# Altium footprint library Leadless.PcbLib: 78 footprints (part 3 of 5)
Each footprint in its own frame and in the unit in brackets; x right, y up, seen from the top. Pads: shape width x height; smd on the part's side, far side on the other; paste and mask are expansions set on the pad; w line width, h text height; cw(c..) or ccw(c..) is an arc to the next point about the centre after c.
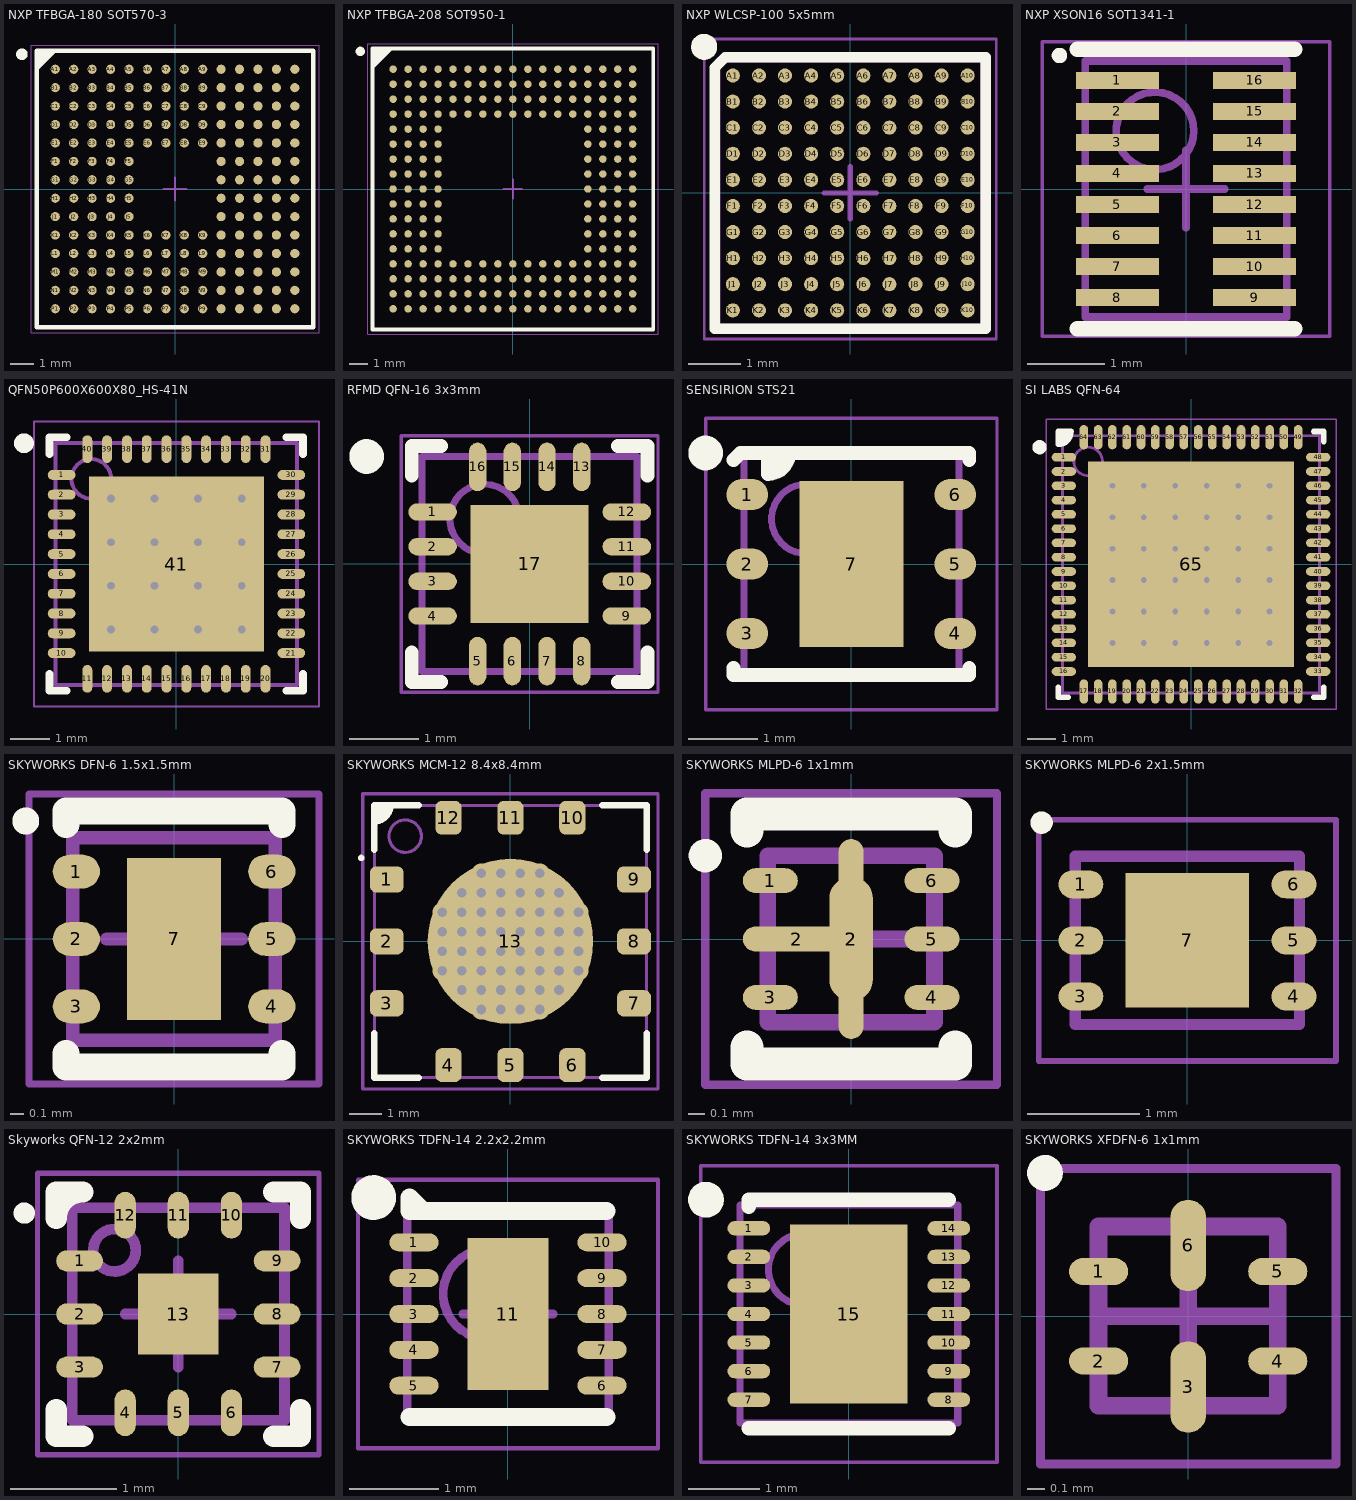
[diagram p2: the footprints below, top view; thin cyan lines are the x and y axes]

## NXP TFBGA-180 SOT570-3 [mm] "BGA, 180-Leads, Body 12.00x12.00mmx1.20mm, Pitch 0.80mm"
height 1.2
pads (180):
  round 0.4 smd: A1(-5.2,5.2) A2(-4.4,5.2) A3(-3.6,5.2) A4(-2.8,5.2) A5(-2,5.2) A6(-1.2,5.2) A7(-0.4,5.2) A8(0.4,5.2) A9(1.2,5.2) A10(2,5.2) A11(2.8,5.2) A12(3.6,5.2) A13(4.4,5.2) A14(5.2,5.2) B1(-5.2,4.4) B2(-4.4,4.4) B3(-3.6,4.4) B4(-2.8,4.4) B5(-2,4.4) B6(-1.2,4.4) B7(-0.4,4.4) B8(0.4,4.4) B9(1.2,4.4) B10(2,4.4) B11(2.8,4.4) B12(3.6,4.4) B13(4.4,4.4) B14(5.2,4.4) C1(-5.2,3.6) C2(-4.4,3.6) C3(-3.6,3.6) C4(-2.8,3.6) C5(-2,3.6) C6(-1.2,3.6) C7(-0.4,3.6) C8(0.4,3.6) C9(1.2,3.6) C10(2,3.6) C11(2.8,3.6) C12(3.6,3.6) C13(4.4,3.6) C14(5.2,3.6) D1(-5.2,2.8) D2(-4.4,2.8) D3(-3.6,2.8) D4(-2.8,2.8) D5(-2,2.8) D6(-1.2,2.8) D7(-0.4,2.8) D8(0.4,2.8) D9(1.2,2.8) D10(2,2.8) D11(2.8,2.8) D12(3.6,2.8) D13(4.4,2.8) D14(5.2,2.8) E1(-5.2,2) E2(-4.4,2) E3(-3.6,2) E4(-2.8,2) E5(-2,2) E6(-1.2,2) E7(-0.4,2) E8(0.4,2) E9(1.2,2) E10(2,2) E11(2.8,2) E12(3.6,2) E13(4.4,2) E14(5.2,2) F1(-5.2,1.2) F2(-4.4,1.2) F3(-3.6,1.2) F4(-2.8,1.2) F5(-2,1.2) F10(2,1.2) F11(2.8,1.2) F12(3.6,1.2) F13(4.4,1.2) F14(5.2,1.2) G1(-5.2,0.4) G2(-4.4,0.4) G3(-3.6,0.4) G4(-2.8,0.4) G5(-2,0.4) G10(2,0.4) G11(2.8,0.4) G12(3.6,0.4) G13(4.4,0.4) G14(5.2,0.4) H1(-5.2,-0.4) H2(-4.4,-0.4) H3(-3.6,-0.4) H4(-2.8,-0.4) H5(-2,-0.4) H10(2,-0.4) H11(2.8,-0.4) H12(3.6,-0.4) H13(4.4,-0.4) H14(5.2,-0.4) J1(-5.2,-1.2) J2(-4.4,-1.2) J3(-3.6,-1.2) J4(-2.8,-1.2) J5(-2,-1.2) J10(2,-1.2) J11(2.8,-1.2) J12(3.6,-1.2) J13(4.4,-1.2) J14(5.2,-1.2) K1(-5.2,-2) K2(-4.4,-2) K3(-3.6,-2) K4(-2.8,-2) K5(-2,-2) K6(-1.2,-2) K7(-0.4,-2) K8(0.4,-2) K9(1.2,-2) K10(2,-2) K11(2.8,-2) K12(3.6,-2) K13(4.4,-2) K14(5.2,-2) L1(-5.2,-2.8) L2(-4.4,-2.8) L3(-3.6,-2.8) L4(-2.8,-2.8) L5(-2,-2.8) L6(-1.2,-2.8) L7(-0.4,-2.8) L8(0.4,-2.8) L9(1.2,-2.8) L10(2,-2.8) L11(2.8,-2.8) L12(3.6,-2.8) L13(4.4,-2.8) L14(5.2,-2.8) M1(-5.2,-3.6) M2(-4.4,-3.6) M3(-3.6,-3.6) M4(-2.8,-3.6) M5(-2,-3.6) M6(-1.2,-3.6) M7(-0.4,-3.6) M8(0.4,-3.6) M9(1.2,-3.6) M10(2,-3.6) M11(2.8,-3.6) M12(3.6,-3.6) M13(4.4,-3.6) M14(5.2,-3.6) N1(-5.2,-4.4) N2(-4.4,-4.4) N3(-3.6,-4.4) N4(-2.8,-4.4) N5(-2,-4.4) N6(-1.2,-4.4) N7(-0.4,-4.4) N8(0.4,-4.4) N9(1.2,-4.4) N10(2,-4.4) N11(2.8,-4.4) N12(3.6,-4.4) N13(4.4,-4.4) N14(5.2,-4.4) P1(-5.2,-5.2) P2(-4.4,-5.2) P3(-3.6,-5.2) P4(-2.8,-5.2) P5(-2,-5.2) P6(-1.2,-5.2) P7(-0.4,-5.2) P8(0.4,-5.2) P9(1.2,-5.2) P10(2,-5.2) P11(2.8,-5.2) P12(3.6,-5.2) P13(4.4,-5.2) P14(5.2,-5.2)
Top Overlay:
  circle w0.25: c-6.65,5.85 r0.125
  region: -5.249,6 -6,5.249 -6,6
  lines w0.2: -6,5.249 -5.249,6 ; -6,-6 -6,6 6,6 6,-6 -6,-6
Mechanical 13:
  lines w0.1: -6,-6 -6,6 6,6 6,-6 -6,-6
Mechanical 15:
  lines w0.05: -6.25,-6.25 -6.25,6.25 6.25,6.25 6.25,-6.25 -6.25,-6.25
  lines w0.1: -0.5,0 0.5,0 ; 0,-0.5 0,0.5
3D body "NXP TFBGA180 SOT570-3.STEP": height 1.15, standoff 0, extent -6,-6 6,6

## NXP TFBGA-208 SOT950-1 [mm] "BGA, 208-Leads, Body 15.00x15.00mmx1.20mm, Pitch 0.80mm"
height 1.2
pads (208):
  round 0.4 smd: A1(-6.4,6.4) A2(-5.6,6.4) A3(-4.8,6.4) A4(-4,6.4) A5(-3.2,6.4) A6(-2.4,6.4) A7(-1.6,6.4) A8(-0.8,6.4) A9(0,6.4) A10(0.8,6.4) A11(1.6,6.4) A12(2.4,6.4) A13(3.2,6.4) A14(4,6.4) A15(4.8,6.4) A16(5.6,6.4) A17(6.4,6.4) B1(-6.4,5.6) B2(-5.6,5.6) B3(-4.8,5.6) B4(-4,5.6) B5(-3.2,5.6) B6(-2.4,5.6) B7(-1.6,5.6) B8(-0.8,5.6) B9(0,5.6) B10(0.8,5.6) B11(1.6,5.6) B12(2.4,5.6) B13(3.2,5.6) B14(4,5.6) B15(4.8,5.6) B16(5.6,5.6) B17(6.4,5.6) C1(-6.4,4.8) C2(-5.6,4.8) C3(-4.8,4.8) C4(-4,4.8) C5(-3.2,4.8) C6(-2.4,4.8) C7(-1.6,4.8) C8(-0.8,4.8) C9(0,4.8) C10(0.8,4.8) C11(1.6,4.8) C12(2.4,4.8) C13(3.2,4.8) C14(4,4.8) C15(4.8,4.8) C16(5.6,4.8) C17(6.4,4.8) D1(-6.4,4) D2(-5.6,4) D3(-4.8,4) D4(-4,4) D5(-3.2,4) D6(-2.4,4) D7(-1.6,4) D8(-0.8,4) D9(0,4) D10(0.8,4) D11(1.6,4) D12(2.4,4) D13(3.2,4) D14(4,4) D15(4.8,4) D16(5.6,4) D17(6.4,4) E1(-6.4,3.2) E2(-5.6,3.2) E3(-4.8,3.2) E4(-4,3.2) E14(4,3.2) E15(4.8,3.2) E16(5.6,3.2) E17(6.4,3.2) F1(-6.4,2.4) F2(-5.6,2.4) F3(-4.8,2.4) F4(-4,2.4) F14(4,2.4) F15(4.8,2.4) F16(5.6,2.4) F17(6.4,2.4) G1(-6.4,1.6) G2(-5.6,1.6) G3(-4.8,1.6) G4(-4,1.6) G14(4,1.6) G15(4.8,1.6) G16(5.6,1.6) G17(6.4,1.6) H1(-6.4,0.8) H2(-5.6,0.8) H3(-4.8,0.8) H4(-4,0.8) H14(4,0.8) H15(4.8,0.8) H16(5.6,0.8) H17(6.4,0.8) J1(-6.4,0) J2(-5.6,0) J3(-4.8,0) J4(-4,0) J14(4,0) J15(4.8,0) J16(5.6,0) J17(6.4,0) K1(-6.4,-0.8) K2(-5.6,-0.8) K3(-4.8,-0.8) K4(-4,-0.8) K14(4,-0.8) K15(4.8,-0.8) K16(5.6,-0.8) K17(6.4,-0.8) L1(-6.4,-1.6) L2(-5.6,-1.6) L3(-4.8,-1.6) L4(-4,-1.6) L14(4,-1.6) L15(4.8,-1.6) L16(5.6,-1.6) L17(6.4,-1.6) M1(-6.4,-2.4) M2(-5.6,-2.4) M3(-4.8,-2.4) M4(-4,-2.4) M14(4,-2.4) M15(4.8,-2.4) M16(5.6,-2.4) M17(6.4,-2.4) N1(-6.4,-3.2) N2(-5.6,-3.2) N3(-4.8,-3.2) N4(-4,-3.2) N14(4,-3.2) N15(4.8,-3.2) N16(5.6,-3.2) N17(6.4,-3.2) P1(-6.4,-4) P2(-5.6,-4) P3(-4.8,-4) P4(-4,-4) P5(-3.2,-4) P6(-2.4,-4) P7(-1.6,-4) P8(-0.8,-4) P9(0,-4) P10(0.8,-4) P11(1.6,-4) P12(2.4,-4) P13(3.2,-4) P14(4,-4) P15(4.8,-4) P16(5.6,-4) P17(6.4,-4) R1(-6.4,-4.8) R2(-5.6,-4.8) R3(-4.8,-4.8) R4(-4,-4.8) R5(-3.2,-4.8) R6(-2.4,-4.8) R7(-1.6,-4.8) R8(-0.8,-4.8) R9(0,-4.8) R10(0.8,-4.8) R11(1.6,-4.8) R12(2.4,-4.8) R13(3.2,-4.8) R14(4,-4.8) R15(4.8,-4.8) R16(5.6,-4.8) R17(6.4,-4.8) T1(-6.4,-5.6) T2(-5.6,-5.6) T3(-4.8,-5.6) T4(-4,-5.6) T5(-3.2,-5.6) T6(-2.4,-5.6) T7(-1.6,-5.6) T8(-0.8,-5.6) T9(0,-5.6) T10(0.8,-5.6) T11(1.6,-5.6) T12(2.4,-5.6) T13(3.2,-5.6) T14(4,-5.6) T15(4.8,-5.6) T16(5.6,-5.6) T17(6.4,-5.6) U1(-6.4,-6.4) U2(-5.6,-6.4) U3(-4.8,-6.4) U4(-4,-6.4) U5(-3.2,-6.4) U6(-2.4,-6.4) U7(-1.6,-6.4) U8(-0.8,-6.4) U9(0,-6.4) U10(0.8,-6.4) U11(1.6,-6.4) U12(2.4,-6.4) U13(3.2,-6.4) U14(4,-6.4) U15(4.8,-6.4) U16(5.6,-6.4) U17(6.4,-6.4)
Top Overlay:
  circle w0.25: c-8.15,7.35 r0.125
  region: -6.5,7.5 -7.5,6.5 -7.5,7.5
  lines w0.2: -7.5,6.5 -6.5,7.5 ; -7.5,-7.5 -7.5,7.5 7.5,7.5 7.5,-7.5 -7.5,-7.5
Mechanical 13:
  lines w0.1: -7.5,-7.5 -7.5,7.5 7.5,7.5 7.5,-7.5 -7.5,-7.5
Mechanical 15:
  lines w0.05: -7.75,-7.75 -7.75,7.75 7.75,7.75 7.75,-7.75 -7.75,-7.75
  lines w0.1: -0.5,0 0.5,0 ; 0,-0.5 0,0.5
3D body "NXP TFBGA208 SOT950-1.STEP": height 1.15, standoff 0, extent -7.5,-7.5 7.5,7.5

## NXP WLCSP-100 5x5mm [mm] "WLCSP, 100-Leads, Body 5.07x5.39mmx0.65mm, Pitch 0.50mm"
height 0.65
pads (100):
  round 0.27 smd: A1(-2.25,2.25) A2(-1.75,2.25) A3(-1.25,2.25) A4(-0.75,2.25) A5(-0.25,2.25) A6(0.25,2.25) A7(0.75,2.25) A8(1.25,2.25) A9(1.75,2.25) A10(2.25,2.25) B1(-2.25,1.75) B2(-1.75,1.75) B3(-1.25,1.75) B4(-0.75,1.75) B5(-0.25,1.75) B6(0.25,1.75) B7(0.75,1.75) B8(1.25,1.75) B9(1.75,1.75) B10(2.25,1.75) C1(-2.25,1.25) C2(-1.75,1.25) C3(-1.25,1.25) C4(-0.75,1.25) C5(-0.25,1.25) C6(0.25,1.25) C7(0.75,1.25) C8(1.25,1.25) C9(1.75,1.25) C10(2.25,1.25) D1(-2.25,0.75) D2(-1.75,0.75) D3(-1.25,0.75) D4(-0.75,0.75) D5(-0.25,0.75) D6(0.25,0.75) D7(0.75,0.75) D8(1.25,0.75) D9(1.75,0.75) D10(2.25,0.75) E1(-2.25,0.25) E2(-1.75,0.25) E3(-1.25,0.25) E4(-0.75,0.25) E5(-0.25,0.25) E6(0.25,0.25) E7(0.75,0.25) E8(1.25,0.25) E9(1.75,0.25) E10(2.25,0.25) F1(-2.25,-0.25) F2(-1.75,-0.25) F3(-1.25,-0.25) F4(-0.75,-0.25) F5(-0.25,-0.25) F6(0.25,-0.25) F7(0.75,-0.25) F8(1.25,-0.25) F9(1.75,-0.25) F10(2.25,-0.25) G1(-2.25,-0.75) G2(-1.75,-0.75) G3(-1.25,-0.75) G4(-0.75,-0.75) G5(-0.25,-0.75) G6(0.25,-0.75) G7(0.75,-0.75) G8(1.25,-0.75) G9(1.75,-0.75) G10(2.25,-0.75) H1(-2.25,-1.25) H2(-1.75,-1.25) H3(-1.25,-1.25) H4(-0.75,-1.25) H5(-0.25,-1.25) H6(0.25,-1.25) H7(0.75,-1.25) H8(1.25,-1.25) H9(1.75,-1.25) H10(2.25,-1.25) J1(-2.25,-1.75) J2(-1.75,-1.75) J3(-1.25,-1.75) J4(-0.75,-1.75) J5(-0.25,-1.75) J6(0.25,-1.75) J7(0.75,-1.75) J8(1.25,-1.75) J9(1.75,-1.75) J10(2.25,-1.75) K1(-2.25,-2.25) K2(-1.75,-2.25) K3(-1.25,-2.25) K4(-0.75,-2.25) K5(-0.25,-2.25) K6(0.25,-2.25) K7(0.75,-2.25) K8(1.25,-2.25) K9(1.75,-2.25) K10(2.25,-2.25)
Top Overlay:
  circle w0.25: c-2.8,2.8 r0.125
  lines w0.2: -2.6,-2.6 -2.6,2.4 -2.4,2.6 2.6,2.6 2.6,-2.6 -2.6,-2.6
Mechanical 13:
  lines w0.1: -2.535,-2.55 -2.535,2.55 2.535,2.55 2.535,-2.55 -2.535,-2.55
Mechanical 15:
  lines w0.05: -2.8,-2.8 -2.8,2.95 2.8,2.95 2.8,-2.8 -2.8,-2.8
  lines w0.1: -0.5,0 0.5,0 ; 0,-0.5 0,0.5
3D body "NXP WLCSP100.STEP": height 0.65, standoff 0, extent -2.537,-2.537 2.537,2.537

## NXP XSON16 SOT1341-1 [mm] "SON, 16-Leads, Body 3.20x2.50mm, Pitch 0.40mm, IPC Medium Density"
height 0.5
pads (16):
  rect 1.07x0.22 smd: 1(-0.885,1.4) 2(-0.885,1) 3(-0.885,0.6) 4(-0.885,0.2) 5(-0.885,-0.2) 6(-0.885,-0.6) 7(-0.885,-1) 8(-0.885,-1.4) 9(0.885,-1.4) 10(0.885,-1) 11(0.885,-0.6) 12(0.885,-0.2) 13(0.885,0.2) 14(0.885,0.6) 15(0.885,1) 16(0.885,1.4)
Top Overlay:
  circle w0.1: c-1.632,1.722 r0.05
  lines w0.2: -1.4,-1.8 1.4,-1.8 ; -1.4,1.8 1.4,1.8
Mechanical 13:
  circle w0.1: c-0.4,0.75 r0.5
  lines w0.1: -1.3,-1.65 1.3,-1.65 1.3,1.65 -1.3,1.65 -1.3,-1.65
Mechanical 15:
  lines w0.05: -1.855,-1.9 1.855,-1.9 1.855,1.9 -1.855,1.9 -1.855,-1.9
  lines w0.1: -0.5,0 0.5,0 ; 0,-0.5 0,0.5
3D body: height 0.5, standoff 0, extent -1.3,-1.65 1.3,1.65

## QFN50P600X600X80_HS-41N [mm] "QFN, 40-Leads, Body 6.00x6.00mm, Pitch 0.50mm, Thermal Pad 4.42x4.42mm, IPC Medium Density"
height 0.8
pads (41):
  oval 0.7x0.25 smd: 1(-2.9,2.25) 2(-2.9,1.75) 3(-2.9,1.25) 4(-2.9,0.75) 5(-2.9,0.25) 6(-2.9,-0.25) 7(-2.9,-0.75) 8(-2.9,-1.25) 9(-2.9,-1.75) 10(-2.9,-2.25) 21(2.9,-2.25) 22(2.9,-1.75) 23(2.9,-1.25) 24(2.9,-0.75) 25(2.9,-0.25) 26(2.9,0.25) 27(2.9,0.75) 28(2.9,1.25) 29(2.9,1.75) 30(2.9,2.25)
  oval 0.25x0.7 smd: 11(-2.25,-2.9) 12(-1.75,-2.9) 13(-1.25,-2.9) 14(-0.75,-2.9) 15(-0.25,-2.9) 16(0.25,-2.9) 17(0.75,-2.9) 18(1.25,-2.9) 19(1.75,-2.9) 20(2.25,-2.9) 31(2.25,2.9) 32(1.75,2.9) 33(1.25,2.9) 34(0.75,2.9) 35(0.25,2.9) 36(-0.25,2.9) 37(-0.75,2.9) 38(-1.25,2.9) 39(-1.75,2.9) 40(-2.25,2.9)
  rect 4.42x4.42 smd: 41(0,0)
via -1.65,1.65 diameter 0.5 hole 0.2
via -0.55,1.65 diameter 0.5 hole 0.2
via 0.55,1.65 diameter 0.5 hole 0.2
via 1.65,1.65 diameter 0.5 hole 0.2
via -1.65,0.55 diameter 0.5 hole 0.2
via -0.55,0.55 diameter 0.5 hole 0.2
via 0.55,0.55 diameter 0.5 hole 0.2
via 1.65,0.55 diameter 0.5 hole 0.2
via -1.65,-0.55 diameter 0.5 hole 0.2
via -0.55,-0.55 diameter 0.5 hole 0.2
via 0.55,-0.55 diameter 0.5 hole 0.2
via 1.65,-0.55 diameter 0.5 hole 0.2
via -1.65,-1.65 diameter 0.5 hole 0.2
via -0.55,-1.65 diameter 0.5 hole 0.2
via 0.55,-1.65 diameter 0.5 hole 0.2
via 1.65,-1.65 diameter 0.5 hole 0.2
Top Overlay:
  circle w0.25: c-3.85,3.05 r0.125
  lines w0.2: -3.2,-2.775 -3.2,-3.2 -2.775,-3.2 ; -3.2,2.775 -3.2,3.2 -2.775,3.2 ; 2.775,-3.2 3.2,-3.2 3.2,-2.775 ; 2.775,3.2 3.2,3.2 3.2,2.775
Mechanical 13:
  circle w0.1: c-2.15,2.15 r0.5
  lines w0.1: -3.05,-3.05 -3.05,3.05 3.05,3.05 3.05,-3.05 -3.05,-3.05
Mechanical 15:
  lines w0.05: -3.6,-3.6 -3.6,3.6 3.6,3.6 3.6,-3.6 -3.6,-3.6
  lines w0.1: -0.5,0 0.5,0 ; 0,-0.5 0,0.5
3D body "QFN50P600X600X80_2_HS-41N.step": height 0.8, standoff 0, extent -3.06,-3.06 3.06,3.06

## RFMD QFN-16 3x3mm [mm] "QFN, 16-Leads, Body 3.00x3.00mm, Pitch 0.50mm, Thermal Pad 1.70x1.70mm, IPC High Density"
height 0.85
pads (17):
  oval 0.7x0.25 smd: 1(-1.4,0.75) 2(-1.4,0.25) 3(-1.4,-0.25) 4(-1.4,-0.75) 9(1.4,-0.75) 10(1.4,-0.25) 11(1.4,0.25) 12(1.4,0.75)
  oval 0.25x0.7 smd: 5(-0.75,-1.4) 6(-0.25,-1.4) 7(0.25,-1.4) 8(0.75,-1.4) 13(0.75,1.4) 14(0.25,1.4) 15(-0.25,1.4) 16(-0.75,1.4)
  rect 1.7x1.7 smd: 17(0,0)
Top Overlay:
  circle w0.25: c-2.35,1.55 r0.125
  lines w0.2: -1.7,-1.275 -1.7,-1.7 -1.275,-1.7 ; -1.7,1.275 -1.7,1.7 -1.275,1.7 ; 1.275,-1.7 1.7,-1.7 1.7,-1.275 ; 1.275,1.7 1.7,1.7 1.7,1.275
Mechanical 13:
  circle w0.1: c-0.65,0.65 r0.5
  lines w0.1: -1.55,-1.55 1.55,-1.55 1.55,1.55 -1.55,1.55 -1.55,-1.55
Mechanical 15:
  lines w0.05: -1.85,-1.85 1.85,-1.85 1.85,1.85 -1.85,1.85 -1.85,-1.85
  lines w0.1: -0.5,0 0.5,0 ; 0,-0.5 0,0.5
3D body: height 0.85, standoff 0.01, extent -1.55,-1.55 1.55,1.55

## SENSIRION STS21 [mm] "DFN, 6-Leads, Body 3.00x3.00mm, Pitch 1.00mm, Thermal Pad 1.50x2.40mm, IPC Medium Density"
height 1.1
pads (7):
  oval 0.6x0.45 smd: 1(-1.5,1) 2(-1.5,0) 3(-1.5,-1) 4(1.5,-1) 5(1.5,0) 6(1.5,1)
  rect 1.5x2.4 smd: 7(0,0)
Top Overlay:
  circle w0.25: c-2.1,1.6 r0.125
  region: -0.9,1.6 -1.2,1.6 -1.2,1.3
  lines w0.2: -1.7,-1.5 -1.7,-1.6 1.7,-1.6 1.7,-1.5 ; -1.7,1.5 -1.6,1.6 1.7,1.6 1.7,1.5 ; -1.2,1.6 -1.2,1.3 ccw(c-1.2,1.6) -0.9,1.6
Mechanical 13:
  circle w0.1: c-0.65,0.65 r0.5
  lines w0.1: -1.55,-1.55 -1.55,1.55 1.55,1.55 1.55,-1.55 -1.55,-1.55
Mechanical 15:
  lines w0.05: -2.1,-2.1 -2.1,2.1 2.1,2.1 2.1,-2.1 -2.1,-2.1
  lines w0.1: -0.5,0 0.5,0 ; 0,-0.5 0,0.5
3D body "SENSIRION STS21.STEP": height 1.1, standoff 0, extent -1.5,-1.5 1.5,1.5

## SI LABS QFN-64 [mm] "QFN, 64-Leads, Body 9.00x9.00mm, Pitch 0.50mm, Thermal Pad 7.20x7.20mm, IPC Medium Density"
height 0.9
pads (65):
  oval 0.85x0.3 smd: 1(-4.45,3.75) 2(-4.45,3.25) 3(-4.45,2.75) 4(-4.45,2.25) 5(-4.45,1.75) 6(-4.45,1.25) 7(-4.45,0.75) 8(-4.45,0.25) 9(-4.45,-0.25) 10(-4.45,-0.75) 11(-4.45,-1.25) 12(-4.45,-1.75) 13(-4.45,-2.25) 14(-4.45,-2.75) 15(-4.45,-3.25) 16(-4.45,-3.75) 33(4.45,-3.75) 34(4.45,-3.25) 35(4.45,-2.75) 36(4.45,-2.25) 37(4.45,-1.75) 38(4.45,-1.25) 39(4.45,-0.75) 40(4.45,-0.25) 41(4.45,0.25) 42(4.45,0.75) 43(4.45,1.25) 44(4.45,1.75) 45(4.45,2.25) 46(4.45,2.75) 47(4.45,3.25) 48(4.45,3.75)
  oval 0.3x0.85 smd: 17(-3.75,-4.45) 18(-3.25,-4.45) 19(-2.75,-4.45) 20(-2.25,-4.45) 21(-1.75,-4.45) 22(-1.25,-4.45) 23(-0.75,-4.45) 24(-0.25,-4.45) 25(0.25,-4.45) 26(0.75,-4.45) 27(1.25,-4.45) 28(1.75,-4.45) 29(2.25,-4.45) 30(2.75,-4.45) 31(3.25,-4.45) 32(3.75,-4.45) 49(3.75,4.45) 50(3.25,4.45) 51(2.75,4.45) 52(2.25,4.45) 53(1.75,4.45) 54(1.25,4.45) 55(0.75,4.45) 56(0.25,4.45) 57(-0.25,4.45) 58(-0.75,4.45) 59(-1.25,4.45) 60(-1.75,4.45) 61(-2.25,4.45) 62(-2.75,4.45) 63(-3.25,4.45) 64(-3.75,4.45)
  rect 7.2x7.2 smd: 65(0,0)
via 2.75,-2.75 diameter 0.5 hole 0.2
via 1.65,-2.75 diameter 0.5 hole 0.2
via 0.55,-2.75 diameter 0.5 hole 0.2
via -0.55,-2.75 diameter 0.5 hole 0.2
via -1.65,-2.75 diameter 0.5 hole 0.2
via -2.75,-2.75 diameter 0.5 hole 0.2
via 2.75,-1.65 diameter 0.5 hole 0.2
via 1.65,-1.65 diameter 0.5 hole 0.2
via 0.55,-1.65 diameter 0.5 hole 0.2
via -0.55,-1.65 diameter 0.5 hole 0.2
via -1.65,-1.65 diameter 0.5 hole 0.2
via -2.75,-1.65 diameter 0.5 hole 0.2
via 2.75,-0.55 diameter 0.5 hole 0.2
via 1.65,-0.55 diameter 0.5 hole 0.2
via 0.55,-0.55 diameter 0.5 hole 0.2
via -0.55,-0.55 diameter 0.5 hole 0.2
via -1.65,-0.55 diameter 0.5 hole 0.2
via -2.75,-0.55 diameter 0.5 hole 0.2
via 2.75,0.55 diameter 0.5 hole 0.2
via 1.65,0.55 diameter 0.5 hole 0.2
via 0.55,0.55 diameter 0.5 hole 0.2
via -0.55,0.55 diameter 0.5 hole 0.2
via -1.65,0.55 diameter 0.5 hole 0.2
via -2.75,0.55 diameter 0.5 hole 0.2
via 2.75,1.65 diameter 0.5 hole 0.2
via 1.65,1.65 diameter 0.5 hole 0.2
via 0.55,1.65 diameter 0.5 hole 0.2
via -0.55,1.65 diameter 0.5 hole 0.2
via -1.65,1.65 diameter 0.5 hole 0.2
via -2.75,1.65 diameter 0.5 hole 0.2
via 2.75,2.75 diameter 0.5 hole 0.2
via 1.65,2.75 diameter 0.5 hole 0.2
via 0.55,2.75 diameter 0.5 hole 0.2
via -0.55,2.75 diameter 0.5 hole 0.2
via -1.65,2.75 diameter 0.5 hole 0.2
via -2.75,2.75 diameter 0.5 hole 0.2
Top Overlay:
  circle w0.25: c-5.3,4.1 r0.125
  region: -4.2,4.65 -4.65,4.65 -4.65,4.2 -4.5,4.2 -4.2,4.5
  lines w0.2: -4.65,-4.3 -4.65,-4.65 -4.3,-4.65 ; 4.3,-4.65 4.65,-4.65 4.65,-4.3 ; 4.3,4.65 4.65,4.65 4.65,4.3 ; -4.65,4.2 ccw(c-4.65,4.65) -4.2,4.65 -4.65,4.65 -4.65,4.2
Mechanical 13:
  circle w0.1: c-3.6,3.6 r0.5
  lines w0.1: -4.5,-4.5 4.5,-4.5 4.5,4.5 -4.5,4.5 -4.5,-4.5
Mechanical 15:
  lines w0.05: -5.075,-5.075 5.075,-5.075 5.075,5.075 -5.075,5.075 -5.075,-5.075
  lines w0.1: -0.5,0 0.5,0 ; 0,-0.5 0,0.5
3D body "SI LABS QFN-64.step": height 0.9, standoff 0, extent -4.501,-4.501 4.501,4.501

## SKYWORKS DFN-6 1.5x1.5mm [mm] "DFN, 6-Leads, Body 1.50x1.50mm, Pitch 0.50mm, Thermal Pad 0.70x1.20mm, IPC High Density"
height 0.5
pads (7):
  oval 0.35x0.25 smd: 1(-0.725,0.5) 2(-0.725,0) 3(-0.725,-0.5) 4(0.725,-0.5) 5(0.725,0) 6(0.725,0.5)
  rect 0.7x1.2 smd: 7(0,0)
Top Overlay:
  circle w0.1: c-1.1,0.875 r0.05
  lines w0.2: -0.8,-0.85 -0.8,-0.95 0.8,-0.95 0.8,-0.85 ; -0.8,0.85 -0.8,0.95 0.8,0.95 0.8,0.85
Mechanical 13:
  lines w0.1: -0.75,-0.75 -0.75,0.75 0.75,0.75 0.75,-0.75 -0.75,-0.75
Mechanical 15:
  lines w0.05: -1.075,-1.075 -1.075,1.075 1.075,1.075 1.075,-1.075 -1.075,-1.075
  lines w0.1: -0.5,0 0.5,0 ; 0,-0.5 0,0.5
3D body: height 0.5, standoff 0.01, extent -0.75,-0.75 0.75,0.75

## SKYWORKS MCM-12 8.4x8.4mm [mm] "QFN, 12-Leads, Body 8.4x8.4mm (max), Pitch 1.91mm, IPC High Density"
height 1.55
pads (13):
  rrect50% 1.043x0.81 smd: 1(-3.812,1.91) 2(-3.812,0) 3(-3.812,-1.91) 7(3.812,-1.91) 8(3.812,0) 9(3.812,1.91)
  rrect50% 0.81x1.043 smd: 4(-1.91,-3.812) 5(0,-3.812) 6(1.91,-3.812) 10(1.91,3.812) 11(0,3.812) 12(-1.91,3.812)
  round 5.1 smd: 13(0,0)
via -0.9,0.3 diameter 0.6 hole 0.3
via -1.5,0.3 diameter 0.6 hole 0.3
via -2.1,0.3 diameter 0.6 hole 0.3
via -2.1,0.9 diameter 0.6 hole 0.3
via -1.5,0.9 diameter 0.6 hole 0.3
via -0.9,0.9 diameter 0.6 hole 0.3
via -0.3,0.9 diameter 0.6 hole 0.3
via -1.5,1.5 diameter 0.6 hole 0.3
via -0.9,1.5 diameter 0.6 hole 0.3
via -0.3,1.5 diameter 0.6 hole 0.3
via -0.3,2.1 diameter 0.6 hole 0.3
via -0.9,2.1 diameter 0.6 hole 0.3
via -0.3,0.3 diameter 0.6 hole 0.3
via 0.9,0.3 diameter 0.6 hole 0.3
via 1.5,0.3 diameter 0.6 hole 0.3
via 2.1,0.3 diameter 0.6 hole 0.3
via 2.1,0.9 diameter 0.6 hole 0.3
via 1.5,0.9 diameter 0.6 hole 0.3
via 0.9,0.9 diameter 0.6 hole 0.3
via 0.3,0.9 diameter 0.6 hole 0.3
via 1.5,1.5 diameter 0.6 hole 0.3
via 0.9,1.5 diameter 0.6 hole 0.3
via 0.3,1.5 diameter 0.6 hole 0.3
via 0.3,2.1 diameter 0.6 hole 0.3
via 0.9,2.1 diameter 0.6 hole 0.3
via 0.3,0.3 diameter 0.6 hole 0.3
via -0.9,-0.3 diameter 0.6 hole 0.3
via -1.5,-0.3 diameter 0.6 hole 0.3
via -2.1,-0.3 diameter 0.6 hole 0.3
via -2.1,-0.9 diameter 0.6 hole 0.3
via -1.5,-0.9 diameter 0.6 hole 0.3
via -0.9,-0.9 diameter 0.6 hole 0.3
via -0.3,-0.9 diameter 0.6 hole 0.3
via -1.5,-1.5 diameter 0.6 hole 0.3
via -0.9,-1.5 diameter 0.6 hole 0.3
via -0.3,-1.5 diameter 0.6 hole 0.3
via -0.3,-2.1 diameter 0.6 hole 0.3
via -0.9,-2.1 diameter 0.6 hole 0.3
via -0.3,-0.3 diameter 0.6 hole 0.3
via 0.9,-0.3 diameter 0.6 hole 0.3
via 1.5,-0.3 diameter 0.6 hole 0.3
via 2.1,-0.3 diameter 0.6 hole 0.3
via 2.1,-0.9 diameter 0.6 hole 0.3
via 1.5,-0.9 diameter 0.6 hole 0.3
via 0.9,-0.9 diameter 0.6 hole 0.3
via 0.3,-0.9 diameter 0.6 hole 0.3
via 1.5,-1.5 diameter 0.6 hole 0.3
via 0.9,-1.5 diameter 0.6 hole 0.3
via 0.3,-1.5 diameter 0.6 hole 0.3
via 0.3,-2.1 diameter 0.6 hole 0.3
via 0.9,-2.1 diameter 0.6 hole 0.3
via 0.3,-0.3 diameter 0.6 hole 0.3
Top Overlay:
  circle w0.1: c-4.6,2.575 r0.05
  region: -3.7,4.2 -4.2,4.2 -4.2,3.7 -4,3.7 -3.7,4
  lines w0.2: -4.2,-2.825 -4.2,-4.2 -2.825,-4.2 ; -4.2,2.825 -4.2,4.2 -2.825,4.2 ; -4.2,3.7 ccw(c-4.2,4.2) -3.7,4.2 ; 2.825,-4.2 4.2,-4.2 4.2,-2.825 ; 2.825,4.2 4.2,4.2 4.2,2.825
Mechanical 13:
  circle w0.1: c-3.245,3.245 r0.5
  lines w0.1: -4.195,-4.195 -4.195,4.195 4.195,4.195 4.195,-4.195 -4.195,-4.195
Mechanical 15:
  lines w0.1: -0.5,0 0.5,0 ; 0,-0.5 0,0.5 ; -4.55,-4.55 -4.55,4.55 4.55,4.55 4.55,-4.55 -4.55,-4.55
3D body "SKY65116.STEP": height 1.45, standoff 0, extent -4.192,-4.192 4.193,4.193

## SKYWORKS MLPD-6 1x1mm [mm] "DFN, 6-Leads, Body 1.50x1.50mm, Pitch 0.50mm, Thermal Pad 0.70x1.20mm, IPC High Density"
height 0.5
pads (8):
  oval 0.33x0.15 smd: 1(-0.485,0.35) 3(-0.485,-0.35) 4(0.485,-0.35) 5(0.485,0) 6(0.485,0.35)
  oval 0.65x0.15 smd: 2(-0.325,0)
  oval 0.26x0.75 smd: 2(0,0)
  oval 0.15x1.2 smd: 2(0,0)
Top Overlay:
  circle w0.1: c-0.875,0.5 r0.05
  lines w0.2: -0.625,-0.65 -0.625,-0.75 0.625,-0.75 0.625,-0.65 ; -0.625,0.65 -0.625,0.75 0.625,0.75 0.625,0.65
Mechanical 13:
  lines w0.1: -0.5,-0.5 0.5,-0.5 0.5,0.5 -0.5,0.5 -0.5,-0.5
Mechanical 15:
  lines w0.05: -0.875,-0.875 0.875,-0.875 0.875,0.875 -0.875,0.875 -0.875,-0.875
  lines w0.1: -0.5,0 0.5,0 ; 0,-0.5 0,0.5
3D body: height 0.5, standoff 0.01, extent -0.5,-0.5 0.5,0.5

## SKYWORKS MLPD-6 2x1.5mm [mm] "DFN, 6-Leads, Body 2.00x1.50mm, Pitch 0.50mm, Thermal Pad 1.10x1.20mm, IPC High Density"
height 0.5
pads (7):
  oval 0.4x0.25 smd: 1(-0.95,0.5) 2(-0.95,0) 3(-0.95,-0.5) 4(0.95,-0.5) 5(0.95,0) 6(0.95,0.5)
  rect 1.1x1.2 smd: 7(0,0)
Top Overlay:
  circle w0.1: c-1.3,1.05 r0.05
Mechanical 13:
  lines w0.1: -1,-0.75 -1,0.75 1,0.75 1,-0.75 -1,-0.75
Mechanical 15:
  lines w0.05: -1.325,-1.075 -1.325,1.075 1.325,1.075 1.325,-1.075 -1.325,-1.075
  lines w0.1: -0.5,0 0.5,0 ; 0,-0.5 0,0.5
3D body: height 0.5, standoff 0.01, extent -1,-0.75 1,0.75

## Skyworks QFN-12 2x2mm [mm] "QFN, 12-Leads, Body 2.00x2.00mm, Pitch 0.50mm, Thermal Pad 0.76x0.76mm, IPC High Density"
height 0.55
pads (13):
  oval 0.44x0.2 smd: 1(-0.93,0.5) 2(-0.93,0) 3(-0.93,-0.5) 7(0.93,-0.5) 8(0.93,0) 9(0.93,0.5)
  oval 0.2x0.44 smd: 4(-0.5,-0.93) 5(0,-0.93) 6(0.5,-0.93) 10(0.5,0.93) 11(0,0.93) 12(-0.5,0.93)
  rect 0.76x0.76 smd: 13(0,0)
Top Overlay:
  circle w0.1: c-1.45,0.95 r0.05
  lines w0.2: -1.15,-0.9 -1.15,-1.15 -0.9,-1.15 ; 0.9,-1.15 1.15,-1.15 1.15,-0.9 ; 0.9,1.15 1.15,1.15 1.15,0.9 ; -1.15,0.9 cw(c-0.9,0.9) -0.9,1.15 -1.15,1.15 -1.15,0.9
Mechanical 13:
  circle w0.1: c-0.6,0.6 r0.2
  lines w0.1: -1,-1 -1,1 1,1 1,-1 -1,-1
Mechanical 15:
  lines w0.05: -1.325,-1.325 -1.325,1.325 1.325,1.325 1.325,-1.325 -1.325,-1.325
  lines w0.1: -0.5,0 0.5,0 ; 0,-0.5 0,0.5
3D body: height 0.55, standoff 0.01, extent -1,-1 1,1

## SKYWORKS TDFN-14 2.2x2.2mm [mm] "TDFN, 14-Leads, Body 2.20x2.20mm, Pitch 0.40mm, Thermal Pad 0.90x1.70mm, IPC Medium Density"
height 0.75
pads (11):
  oval 0.55x0.2 smd: 1(-1.05,0.8) 2(-1.05,0.4) 3(-1.05,0) 4(-1.05,-0.4) 5(-1.05,-0.8) 6(1.05,-0.8) 7(1.05,-0.4) 8(1.05,0) 9(1.05,0.4) 10(1.05,0.8)
  rect 0.9x1.7 smd: 11(0,0)
Top Overlay:
  circle w0.25: c-1.5,1.3 r0.125
  lines w0.2: -1.1,-1.15 1.1,-1.15 ; -0.95,1.15 -1.1,1.3 -1.1,1.15 1.1,1.15
Mechanical 13:
  circle w0.1: c-0.225,0.225 r0.5
  lines w0.1: -1.125,-1.125 1.125,-1.125 1.125,1.125 -1.125,1.125 -1.125,-1.125
Mechanical 15:
  lines w0.05: -1.675,-1.5 1.675,-1.5 1.675,1.5 -1.675,1.5 -1.675,-1.5
  lines w0.1: -0.5,0 0.5,0 ; 0,-0.5 0,0.5
3D body: height 0.75, standoff 0.01, extent -1.125,-1.125 1.125,1.125

## SKYWORKS TDFN-14 3x3MM [mm] "TDFN, 14-Leads, Body 3.00x3.00mm, Pitch 0.40mm, Thermal Pad 1.65x2.50mm, IPC Medium Density"
height 0.8
pads (15):
  oval 0.6x0.2 smd: 1(-1.4,1.2) 2(-1.4,0.8) 3(-1.4,0.4) 4(-1.4,0) 5(-1.4,-0.4) 6(-1.4,-0.8) 7(-1.4,-1.2) 8(1.4,-1.2) 9(1.4,-0.8) 10(1.4,-0.4) 11(1.4,0) 12(1.4,0.4) 13(1.4,0.8) 14(1.4,1.2)
  rect 1.65x2.5 smd: 15(0,0)
Top Overlay:
  circle w0.25: c-2,1.6 r0.125
  lines w0.2: -1.4,-1.6 1.4,-1.6 ; -1.4,1.5 -1.4,1.6 1.4,1.6
Mechanical 13:
  circle w0.1: c-0.625,0.625 r0.5
  lines w0.1: -1.525,-1.525 -1.525,1.525 1.525,1.525 1.525,-1.525 -1.525,-1.525
Mechanical 15:
  lines w0.05: -2.075,-2.075 -2.075,2.075 2.075,2.075 2.075,-2.075 -2.075,-2.075
  lines w0.1: -0.5,0 0.5,0 ; 0,-0.5 0,0.5
3D body: height 0.8, standoff 0.08, extent -1.525,-1.525 1.525,1.525

## SKYWORKS XFDFN-6 1x1mm [mm] "QFN, 6-Leads, Body 1.00x1.00mm, Pitch 0.50mm, IPC High Density"
height 0.5
pads (6):
  oval 0.33x0.15 smd: 1(-0.5,0.25) 2(-0.5,-0.25) 4(0.5,-0.25) 5(0.5,0.25)
  oval 0.2x0.51 smd: 3(0,-0.395) 6(0,0.395)
Top Overlay:
  circle w0.1: c-0.8,0.8 r0.05
Mechanical 13:
  lines w0.1: -0.5,-0.5 0.5,-0.5 0.5,0.5 -0.5,0.5 -0.5,-0.5
Mechanical 15:
  lines w0.05: -0.825,-0.825 0.825,-0.825 0.825,0.825 -0.825,0.825 -0.825,-0.825
  lines w0.1: -0.5,0 0.5,0 ; 0,-0.5 0,0.5
3D body: height 0.5, standoff 0.01, extent -0.5,-0.5 0.5,0.5